# EAGLE library part RELAIS-FINDER-40.61 (library 1A-meinLib)
Print-Leistungsrelais, 16A, Typ 40.61...., Finder
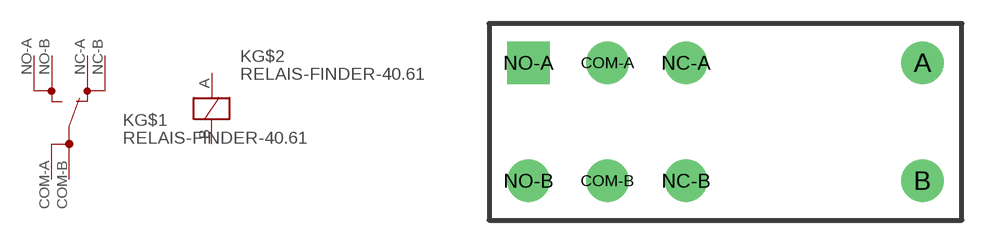
[diagram p115: symbol with the pads of RELAIS-FINDER-40.61; footprint RELAIS-FINDER-40.61]

Designator prefix K; gates G$1=RELAIS-UMSCHALTER-FINDER-40.61 G$2=RELAIS-SPULE

## RELAIS-FINDER-40.61  [RELAIS-FINDER-40.61]
A  G$2:A1  pas
B  G$2:A2  pas
COM-A  G$1:COM-A
COM-B  G$1:COM-B
NC-A  G$1:NC-A
NC-B  G$1:NC-B
NO-A  G$1:NO-A
NO-B  G$1:NO-B

## Footprint RELAIS-FINDER-40.61 (pad centres in mm)
drill 1.8 round: A 25,0; B 25,-7.5; COM-A 5,0; COM-B 5,-7.5; NC-A 10,0; NC-B 10,-7.5; NO-B 0,-7.5
drill 1.8 square: NO-A 0,0